# Altium schematic symbol library Power Module 3.Schlib: 1 symbol
Pins are listed as number, name and electrical type; pins without a type are passive.

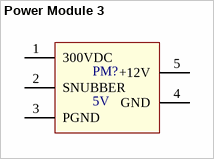
[diagram p0: symbol Power Module 3]

## Power Module 3
designator PM?, comment 5V
5V- 290mA Power module
pins: 1 300VDC, 2 SNUBBER, 3 PGND, 4 GND, 5 +12V